# Altium footprint library TE-1-102975-0.PcbLib: 1 footprints
Each footprint in its own frame and in the unit in brackets; x right, y up, seen from the top. Pads: shape width x height; smd on the part's side, far side on the other; paste and mask are expansions set on the pad; w line width, h text height; cw(c..) or ccw(c..) is an arc to the next point about the centre after c.
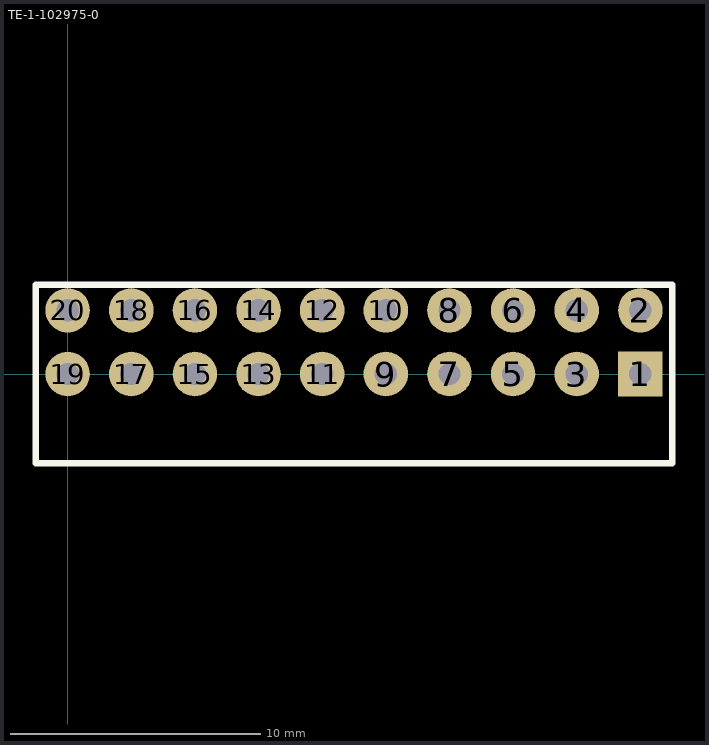
[diagram p0: the footprint, top view; thin cyan lines are the x and y axes]

## TE-1-102975-0 [mil]
pads (20):
  rect 70x70 hole 35: 1(900,0)
  round 70 hole 35: 2(900,100) 3(800,0) 4(800,100) 5(700,0) 6(700,100) 7(600,0) 8(600,100) 9(500,0) 10(500,100) 11(400,0) 12(400,100) 13(300,0) 14(300,100) 15(200,0) 16(200,100) 17(100,0) 18(100,100) 19(0,0) 20(0,100)
Top Overlay:
  lines w10: -50,-140 950,-140 950,140 -50,140 -50,-140
Mechanical 4:
  text ".340" at 900,0 h1
3D body: height 239, standoff -109, extent -42,-458.25 942,112